# Altium schematic symbol library NPN.SchLib: 1 symbol
Pins are listed as number, name and electrical type; pins without a type are passive.

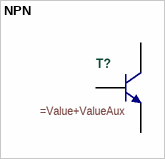
[diagram p0: symbol NPN]

## NPN
designator T?
=Description
pins: 1 B, 2 E, 3 C